# Altium footprint library PRESET.PcbLib: 3 footprints
Each footprint in its own frame and in the unit in brackets; x right, y up, seen from the top. Pads: shape width x height; smd on the part's side, far side on the other; paste and mask are expansions set on the pad; w line width, h text height; cw(c..) or ccw(c..) is an arc to the next point about the centre after c.
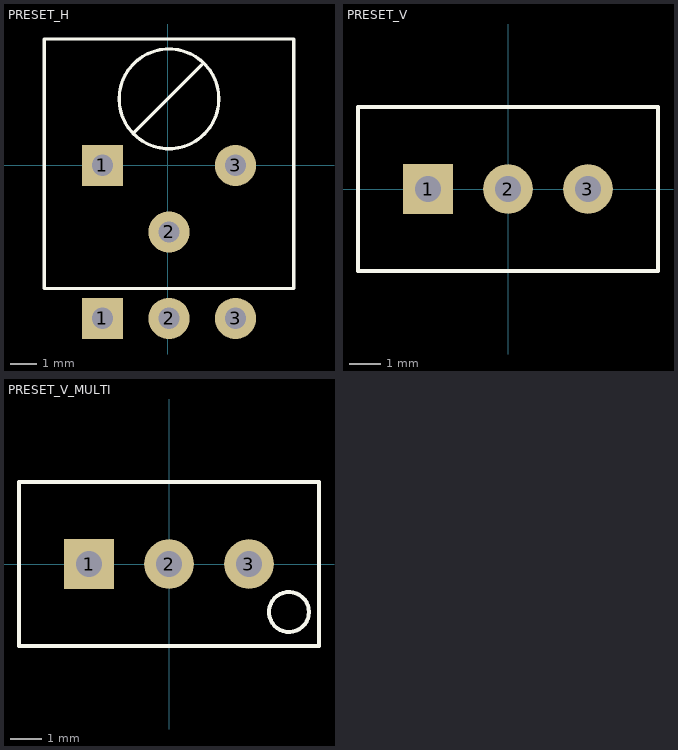
[diagram p0: the footprints below, top view; thin cyan lines are the x and y axes]

## PRESET_H [mil]
pads (6):
  rect 62x62 hole 32: 1(-98.43,-230) 1(-98.42,0)
  round 62 hole 32: 2(1.57,-230) 2(1.57,-100) 3(101.57,-230) 3(101.57,0)
Top Overlay:
  circle w5: c1.57,100 r75
  lines w5: -49.7,50.59 50.3,150.59 ; -185.93,-185 189.07,-185 189.07,190 -185.93,190 -185.93,-185
3D body: height 196.85, standoff -190.16, extent -190,-187.6 185.2,187.6

## PRESET_V [mil]
pads (3):
  rect 62x62 hole 32: 1(-100,0)
  round 62 hole 32: 2(0,0) 3(100,0)
Top Overlay:
  lines w5: -187.5,-102.36 -187.5,102.36 187.5,102.36 187.5,-102.36 -187.5,-102.36
3D body: height 385, standoff -221, extent -185.2,-95.1 191.8,99.9

## PRESET_V_MULTI [mil]
pads (3):
  rect 62x62 hole 32: 1(-100,0)
  round 62 hole 32: 2(0,0) 3(100,0)
Top Overlay:
  circle w5: c150,-60 r25
  lines w5: -187.5,-102.36 -187.5,102.36 187.5,102.36 187.5,-102.36 -187.5,-102.36
3D body: height 454.72, standoff -251.97, extent -185.2,-95.1 190,95.1